# Altium schematic symbol library Bivar VLP-XXX-X.SchLib: 1 symbol
Pins are listed as number, name and electrical type; pins without a type are passive.

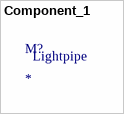
[diagram p0: symbol Component_1]

## Component_1
designator M?
Light Pipe Vertical; ManufacturerPartNumber: VLP-XXX-X; Manufacturer: Bivar
footprint PCBComponent_1 (VLP-XXX-X)
text: Lightpipe